# EAGLE library part KSXRZ-800C-1 (library memory-cactus)
SD Chip
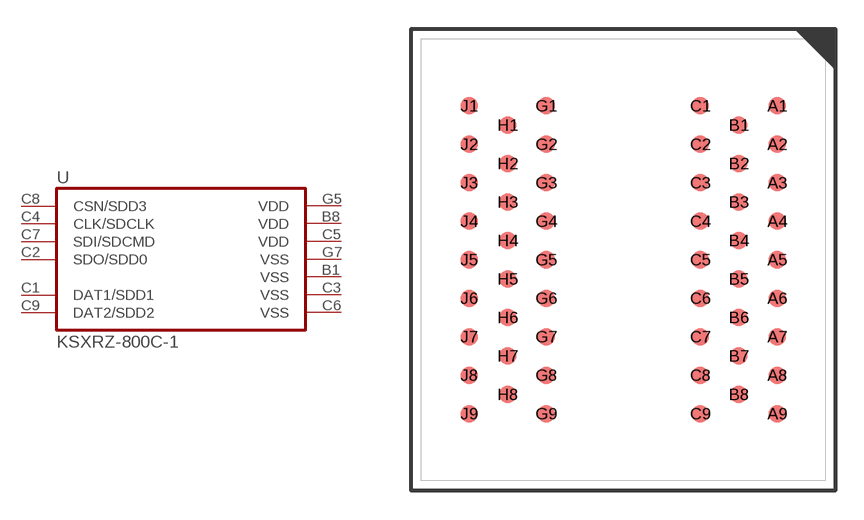
[diagram p0: symbol with the pads of KSXRZ-800C-1; footprint KSXRZ-800C-1]

Designator prefix U

## KSXRZ-800C-1  [KSXRZ-800C-1]
B1  VSS  pwr
B8  VDD  pwr
C1  DAT1/SDD1
C2  SDO/SDD0
C3  VSS  pwr
C4  CLK/SDCLK
C5  VDD  pwr
C6  VSS  pwr
C7  SDI/SDCMD
C8  CSN/SDD3
C9  DAT2/SDD2
G5  VDD  pwr
G7  VSS  pwr

## Footprint KSXRZ-800C-1 (pad centres in mm)
SD MEMORY
smd 0.9 x 0.9: A1 8,8; A2 8,6; A3 8,4; A4 8,2; A5 8,0; A6 8,-2; A7 8,-4; A8 8,-6; A9 8,-8; B1 6,7; B2 6,5; B3 6,3; B4 6,1; B5 6,-1; B6 6,-3; B7 6,-5; B8 6,-7; C1 4,8; C2 4,6; C3 4,4; C4 4,2; C5 4,0; C6 4,-2; C7 4,-4; C8 4,-6; C9 4,-8; G1 -4,8; G2 -4,6; G3 -4,4; G4 -4,2; G5 -4,0; G6 -4,-2; G7 -4,-4; G8 -4,-6; G9 -4,-8; H1 -6,7; H2 -6,5; H3 -6,3; H4 -6,1; H5 -6,-1; H6 -6,-3; H7 -6,-5; H8 -6,-7; J1 -8,8; J2 -8,6; J3 -8,4; J4 -8,2; J5 -8,0; J6 -8,-2; J7 -8,-4; J8 -8,-6; J9 -8,-8